# EAGLE library part DIP7 (library microSD_Transflash)
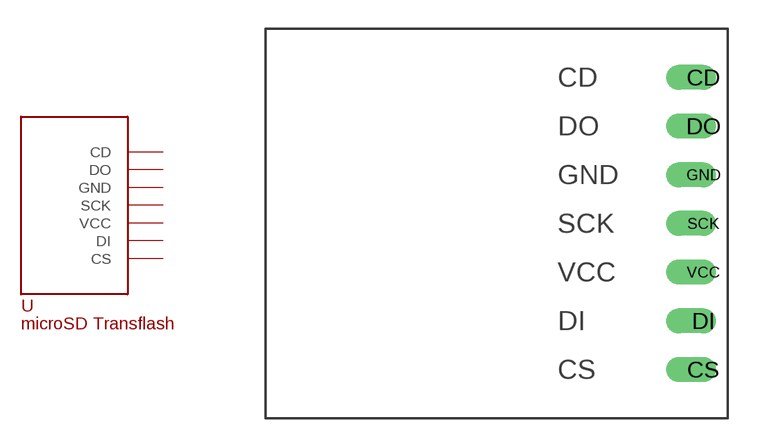
[diagram p0: symbol with the pads of DIP7; footprint DIP7]

Designator prefix -

## DIP7DIP7  [DIP7]
CD  CD
CS  CS
DI  DI
DO  DO
GND  GND
SCK  SCK
VCC  VCC

## Footprint DIP7 (pad centres in mm)
drill 0.8 offset: CD 0,0; CS 0,-15.24; DI 0,-12.7; DO 0,-2.54; GND 0,-5.08; SCK 0,-7.62; VCC 0,-10.16